# EAGLE library part 691243410008 (library Eagle_WR-TBL+Rising+Cage+Clamp_rev20a)
WR-TBL Serie 2434 - 7.62 mm Horizontal Entry Modular w. Rising Cage Clamp KIND PROPERTIES Pitch 7.62 mm MATERIAL PROPERTIES Insulator Material PA66 Insulator Flammability Rating UL94 V-0 Contact Material Copper Alloy Contact Plating Tin over Nickel Terminal Screw Material Steel Terminal Screw Plating Zinc Wire Guard Material Copper Alloy GENERAL INFORMATION Operating Temperature -30 up to +120 °C Compliance RoHS ELECTRICAL PROPERTIES IR UL 10 A IR VDE 10 A Working Voltage [UL] 300 V (AC) Working Voltage [VDE] 450 V (AC) Withstanding Voltage [UL] 1600 V (AC) Withstanding Voltage [cULus] 1600 V (AC) Withstanding Voltage [VDE] 2500 V (AC) Contact Resistance [UL] 20 mΩ Contact Resistance [cULus] 20 mΩ Contact Resistance [VDE] 20 mΩ MECHANICAL PROPERTIES Wire Strip Length 6 Screw M2 CERTIFICATION cULus Approval E150931 VDE Approval 40015434 PACKAGING PROPERTIES Packaging Box <https://www.we-online.com/catalog/media/o60871v209%20Family_TBL_7_62_2434_VERTICAL_CABLE_ENTRY_W_RISING_CLAMP_6912434100xx.jpg> Details see: https://www.we-online.com/catalog/en/TBL_7_62_2434_VERTICAL_CABLE_ENTRY_W_RISING_CLAMP_6912434100xx/ Updated by Ella Wu 2019-11-27 2019(C) Wurth Elektronik
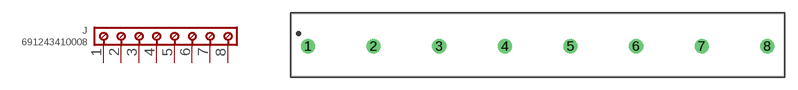
[diagram p120: symbol with the pads of 691243410008; footprint 691243410008]

Designator prefix J

## 691243410008 (IR-UL: 10A; IR-VDE: 10A; PART-NUMBER: 691243410008; PINS: 8; PITCH: 7.62mm; TYPE: Horizontal; WIRE: 12 to 30 (AWG) 3.31 to 0.0509 (mm²); WORKING-VOLTAGE-UL: 300V (AC); WORKING-VOLTAGE-VDE: 450V (AC))  [691243410008]
1  1  pas
2  2  pas
3  3  pas
4  4  pas
5  5  pas
6  6  pas
7  7  pas
8  8  pas

## Footprint 691243410008 (pad centres in mm)
WR-TBL Serie 2434 - 7.62 mm Horizontal Entry Modular w. Rising Cage Clamp Max Height =9.1mm , Pitch 7.62mm , 8 Pins
drill 1.1: 1 -26.67,0; 2 -19.05,0; 3 -11.43,0; 4 -3.81,0; 5 3.81,0; 6 11.43,0; 7 19.05,0; 8 26.67,0